# EAGLE library part TCA6424ARGJR (library digital-jqi)
24 bit digital I/O expander
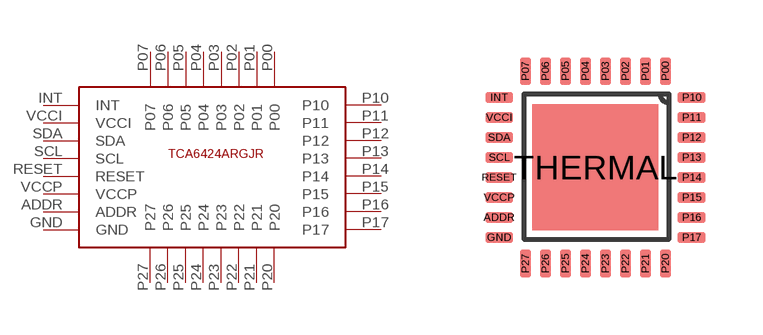
[diagram p0: symbol with the pads of UQFN; footprint UQFN]

Designator prefix -

## TCA6424ARGJR  [UQFN]
ADDR  ADDR
GND  GND
INT  INT
P00  P00
P01  P01
P02  P02
P03  P03
P04  P04
P05  P05
P06  P06
P07  P07
P10  P10
P11  P11
P12  P12
P13  P13
P14  P14
P15  P15
P16  P16
P17  P17
P20  P20
P21  P21
P22  P22
P23  P23
P24  P24
P25  P25
P26  P26
P27  P27
RESET  RESET
SCL  SCL
SDA  SDA
VCCI  VCCI
VCCP  VCCP

## Footprint UQFN (pad centres in mm)
smd 0.7 x 0.28: ADDR -0.835,0.325; GND -0.835,-0.175; INT -0.835,3.325; P10 3.975,3.325; P11 3.975,2.825; P12 3.975,2.325; P13 3.975,1.825; P14 3.975,1.325; P15 3.975,0.825; P16 3.975,0.325; P17 3.975,-0.175; RESET -0.835,1.325; SCL -0.835,1.825; SDA -0.835,2.325; VCCI -0.835,2.825; VCCP -0.835,0.825
smd 0.28 x 0.7: P00 3.32,3.98; P01 2.82,3.98; P02 2.32,3.98; P03 1.82,3.98; P04 1.32,3.98; P05 0.82,3.98; P06 0.32,3.98; P07 -0.18,3.98; P20 3.32,-0.83; P21 2.82,-0.83; P22 2.32,-0.83; P23 1.82,-0.83; P24 1.32,-0.83; P25 0.82,-0.83; P26 0.32,-0.83; P27 -0.18,-0.83
smd 3.15 x 3.15: THERMAL 1.57,1.575